# EAGLE library part TC2050-IDC (library TC2050-IDC)
Cbl Plug-Of-Nails 10-Pin w/Legs
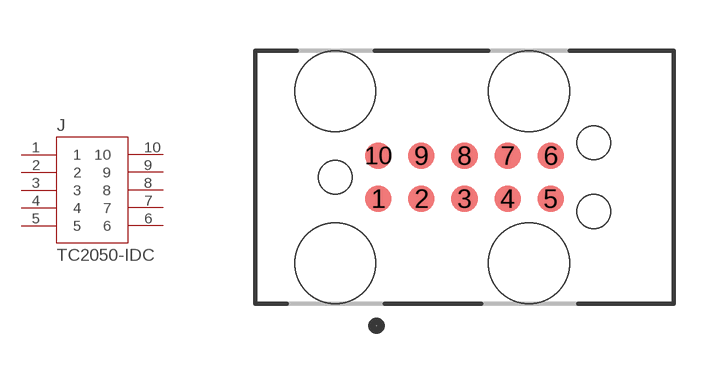
[diagram p0: symbol with the pads of TAG-CONNECT_TC2050-IDC; footprint TAG-CONNECT_TC2050-IDC]

Designator prefix J

## TC2050-IDC (MF: Tag Connect; PARTREV: A; STANDARD: Manufacturer Recommendations)  [TAG-CONNECT_TC2050-IDC]
1  1  pas
2  2  pas
3  3  pas
4  4  pas
5  5  pas
6  6  pas
7  7  pas
8  8  pas
9  9  pas
10  10  pas

## Footprint TAG-CONNECT_TC2050-IDC (pad centres in mm)
smd 0.787 x 0.787: 1 -2.54,-0.635; 2 -1.27,-0.635; 3 0,-0.635; 4 1.27,-0.635; 5 2.54,-0.635; 6 2.54,0.635; 7 1.27,0.635; 8 0,0.635; 9 -1.27,0.635; 10 -2.54,0.635
hole 0.991 at -3.81,0
hole 0.991 at 3.81,1.015
hole 0.991 at 3.81,-1.015
hole 2.375 at -3.81,2.54
hole 2.375 at 1.905,2.54
hole 2.375 at -3.81,-2.54
hole 2.375 at 1.905,-2.54